# Altium integrated library TI Data Converters Analog to Digital Converter.IntLib: 2197 symbols (part 142 of 168)
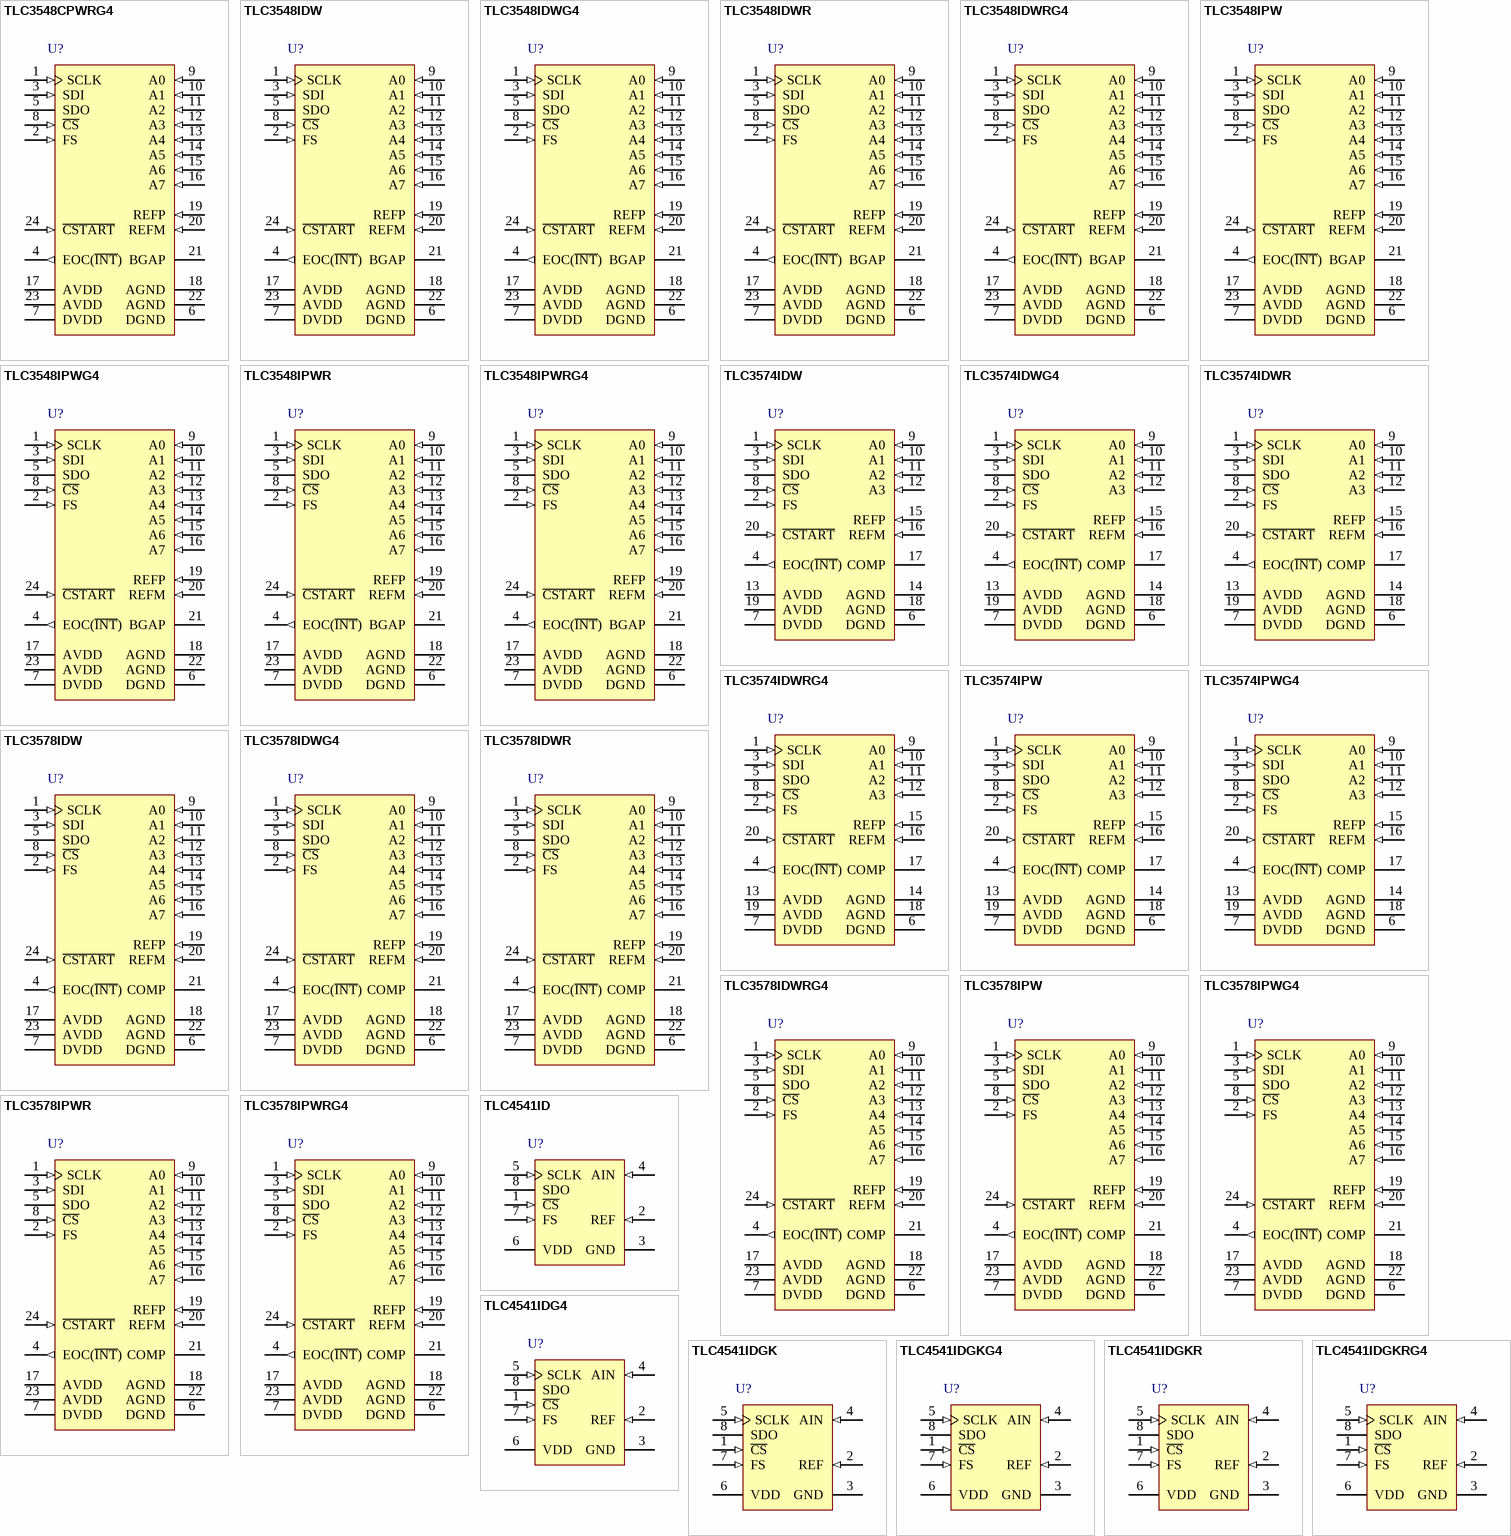
[diagram p267: symbols TLC3548CPWRG4 to TLC4541IDGKRG4]

## TLC3548IPWR
designator U?
14-Bit, 5 V, 200 kSPS, 8-Channel Unipolar ADC, -40 to 85 degC, 24-pin SOP (PW24), Green (RoHS & no Sb/Br); Manufacturer: Texas Instruments; PartNumber: TLC3548IPWR; # Input Channels: 8; Analog Voltage AV/DD(Max)(V): 5.5; Analog Voltage AV/DD(Min)(V): 4.5; Architecture: SAR; Digital Supply(Min)(V): 2.7; ENOB(Bits): 13.1; INL(Max)(+/-LSB): 1; Interface: Serial SPI; Resolution(Bits): 14; Sample Rate (max)(SPS): 200k; SFDR(dB): 97; SINAD(dB): 80.8; SNR(dB): 81; SubFamily: Precision ADC (<=10MSPS); DatasheetVersion: SLAS266C; PackageVersion: 4040064-6/G, 02/2011; PackageReference: PW24; PackageDescription: 24-Pin Plastic Small Outline, Body 7.8 x 4.4 mm, Pitch 0.65 mm; Supplier 1: Digi-Key; Supplier Part Number 1: TLC0838IDWRG4-ND; Supplier 2: Mouser; Supplier Part Number 2: 595-TLC0838IDWRG4; Digital Supply(Max)(V): 5.5; Eco-Plan: Green (RoHS & no Sb/Br); Mounting Technology: Surface Mount; Code_JEDEC: MO-153; ComponentLink1Description: Manufacturer URL; ComponentLink1URL: http://www.ti.com/; ComponentLink2Description: Datasheet; ComponentLink2URL: http://www.ti.com/general/docs/lit/getliterature.tsp?genericPartNumber=TLC3548&fileType=pdf; ComponentLink3Description: Package Specification; ComponentLink3URL: http://www.ti.com/litv/pdf/mpds363
footprint TI-PW24_N (SOP, 24-Leads, Body 7.8x4.4mm, Pitch 0.65mm, IPC Medium Density)
footprint TI-PW24_L (SOP, 24-Leads, Body 7.8x4.4mm, Pitch 0.65mm, IPC High Density)
footprint TI-PW24_M (SOP, 24-Leads, Body 7.8x4.4mm, Pitch 0.65mm, IPC Low Density)
pins: 1 SCLK (in) "Serial clock input from the host processor to clock in the input from SDI and clock out the output via SDO. It can also be used as the conversion clock source when the external conversion clock is selected (see Table 2). (See Datasheet)", 2 FS (in) "Frame sync input from DSP. The rising edge of FS indicates the start of a serial data frame being transferred (coming into or being sent out of the device). If FS is low at the falling edge of C\S\, the rising edge of FS (See Datasheet)", 3 SDI (in) "Serial data input. The first 4 MSBs, ID[15:12], are decoded as one 4-bit command. All trailing bits,except for the CONFIGURE WRITE command, are filled with zeros. The CONFIGURE WRITE command requires additional 12-bit data. (See Datasheet)", 4 EOC(~{INT}) (out) "End of conversion (EOC) or interrupt to host processor (I\N\T\) EOC: used in conversion mode 00 only. EOC goes from high to low at the end of the sampling and remains low until the conversion is complete and data is ready.(See Datasheet)", 5 SDO (hiz) "The 3-state serial output for the A/D conversion result. All data bits are shifted out through SDO.SDO is in the high-impedance state when C\S\ is high. SDO is released after a C\S\ falling edge. The output format is MSB (See Datasheet)", 6 DGND (power) "Digital ground return for the internal circuitry", 7 DVDD (power) "Digital supply voltage", 8 ~{CS} (in) "Chip select. When C\S\ is high, SDO is in high-impedance state, SDI is ignored, and SCLK is disabled to clock data but works as conversion clock source if programmed. The falling edge of C\S\ input resets the internal 4-bit (See Datasheet)", 9 A0 (in) "Analog signal inputs. Analog input signals applied to these terminals are internally multiplexed. The driving source impedance should be less than or equal to 1 kO for normal sampling. For larger source impedance, use the (See Datasheet)", 10 A1 (in) "Analog signal inputs. Analog input signals applied to these terminals are internally multiplexed. The driving source impedance should be less than or equal to 1 kO for normal sampling. For larger source impedance, use the (See Datasheet)", 11 A2 (in) "Analog signal inputs. Analog input signals applied to these terminals are internally multiplexed. The driving source impedance should be less than or equal to 1 kO for normal sampling. For larger source impedance, use the (See Datasheet)", 12 A3 (in) "Analog signal inputs. Analog input signals applied to these terminals are internally multiplexed. The driving source impedance should be less than or equal to 1 kO for normal sampling. For larger source impedance, use the (See Datasheet)", 13 A4 (in) "Analog signal inputs. Analog input signals applied to these terminals are internally multiplexed. The driving source impedance should be less than or equal to 1 kO for normal sampling. For larger source impedance, use the (See Datasheet)", 14 A5 (in) "Analog signal inputs. Analog input signals applied to these terminals are internally multiplexed. The driving source impedance should be less than or equal to 1 kO for normal sampling. For larger source impedance, use the (See Datasheet)", 15 A6 (in) "Analog signal inputs. Analog input signals applied to these terminals are internally multiplexed. The driving source impedance should be less than or equal to 1 kO for normal sampling. For larger source impedance, use the (See Datasheet)", 16 A7 (in) "Analog signal inputs. Analog input signals applied to these terminals are internally multiplexed. The driving source impedance should be less than or equal to 1 kO for normal sampling. For larger source impedance, use the (See Datasheet)", 17 AVDD (power) "Analog supply voltage", 18 AGND (power) "Analog ground return for the internal circuitry. Unless otherwise noted, all analog voltage measurements are with respect to AGND.", 19 REFP (in) "External positive reference input. When an external reference is used, the range of maximum input voltage is determined by the difference between the voltage applied to this terminal and to the REFM terminal. Always install (See Datasheet)", 20 REFM (in) "External low reference input. Connect REFM to AGND.", 21 BGAP "Internal bandgap compensation pin. Install compensation capacitors between BGAP and AGND.0.1 uF for external reference; 10 uF in parallel with 0.1 uF for internal reference.", 22 AGND (power) "Analog ground return for the internal circuitry. Unless otherwise noted, all analog voltage measurements are with respect to AGND.", 23 AVDD (power) "Analog supply voltage", 24 ~{CSTART} (in) "External sampling trigger signal, which initiates the sampling from a selected analog input channel when the device works in extended sampling mode (asynchronous sampling). A high-to-low transition starts the sampling of the (See Datasheet)"

## TLC3548IPWRG4
designator U?
14-Bit, 5 V, 200 kSPS, 8-Channel Unipolar ADC, -40 to 85 degC, 24-pin SOP (PW24), Green (RoHS & no Sb/Br); Manufacturer: Texas Instruments; PartNumber: TLC3548IPWRG4; # Input Channels: 8; Analog Voltage AV/DD(Max)(V): 5.5; Analog Voltage AV/DD(Min)(V): 4.5; Architecture: SAR; Digital Supply(Min)(V): 2.7; ENOB(Bits): 13.1; INL(Max)(+/-LSB): 1; Interface: Serial SPI; Resolution(Bits): 14; Sample Rate (max)(SPS): 200k; SFDR(dB): 97; SINAD(dB): 81; SNR(dB): 80.8; SubFamily: Precision ADC (<=10MSPS); DatasheetVersion: SLAS266C; PackageVersion: 4040064-6/G, 02/2011; PackageReference: PW24; PackageDescription: 24-Pin Plastic Small Outline, Body 7.8 x 4.4 mm, Pitch 0.65 mm; Supplier 1: Digi-Key; Supplier Part Number 1: 296-2868-5-ND; Supplier 2: Mouser; Supplier Part Number 2: 595-TLC0838IN; Digital Supply(Max)(V): 5.5; Eco-Plan: Green (RoHS & no Sb/Br); Mounting Technology: Surface Mount; Code_JEDEC: MO-153; ComponentLink1Description: Manufacturer URL; ComponentLink1URL: http://www.ti.com/; ComponentLink2Description: Datasheet; ComponentLink2URL: http://www.ti.com/general/docs/lit/getliterature.tsp?genericPartNumber=TLC3548&fileType=pdf; ComponentLink3Description: Package Specification; ComponentLink3URL: http://www.ti.com/litv/pdf/mpds363
footprint TI-PW24_N (SOP, 24-Leads, Body 7.8x4.4mm, Pitch 0.65mm, IPC Medium Density)
footprint TI-PW24_L (SOP, 24-Leads, Body 7.8x4.4mm, Pitch 0.65mm, IPC High Density)
footprint TI-PW24_M (SOP, 24-Leads, Body 7.8x4.4mm, Pitch 0.65mm, IPC Low Density)
pins: 1 SCLK (in) "Serial clock input from the host processor to clock in the input from SDI and clock out the output via SDO. It can also be used as the conversion clock source when the external conversion clock is selected (see Table 2). (See Datasheet)", 2 FS (in) "Frame sync input from DSP. The rising edge of FS indicates the start of a serial data frame being transferred (coming into or being sent out of the device). If FS is low at the falling edge of C\S\, the rising edge of FS (See Datasheet)", 3 SDI (in) "Serial data input. The first 4 MSBs, ID[15:12], are decoded as one 4-bit command. All trailing bits,except for the CONFIGURE WRITE command, are filled with zeros. The CONFIGURE WRITE command requires additional 12-bit data. (See Datasheet)", 4 EOC(~{INT}) (out) "End of conversion (EOC) or interrupt to host processor (I\N\T\) EOC: used in conversion mode 00 only. EOC goes from high to low at the end of the sampling and remains low until the conversion is complete and data is ready.(See Datasheet)", 5 SDO (hiz) "The 3-state serial output for the A/D conversion result. All data bits are shifted out through SDO.SDO is in the high-impedance state when C\S\ is high. SDO is released after a C\S\ falling edge. The output format is MSB (See Datasheet)", 6 DGND (power) "Digital ground return for the internal circuitry", 7 DVDD (power) "Digital supply voltage", 8 ~{CS} (in) "Chip select. When C\S\ is high, SDO is in high-impedance state, SDI is ignored, and SCLK is disabled to clock data but works as conversion clock source if programmed. The falling edge of C\S\ input resets the internal 4-bit (See Datasheet)", 9 A0 (in) "Analog signal inputs. Analog input signals applied to these terminals are internally multiplexed. The driving source impedance should be less than or equal to 1 kO for normal sampling. For larger source impedance, use the (See Datasheet)", 10 A1 (in) "Analog signal inputs. Analog input signals applied to these terminals are internally multiplexed. The driving source impedance should be less than or equal to 1 kO for normal sampling. For larger source impedance, use the (See Datasheet)", 11 A2 (in) "Analog signal inputs. Analog input signals applied to these terminals are internally multiplexed. The driving source impedance should be less than or equal to 1 kO for normal sampling. For larger source impedance, use the (See Datasheet)", 12 A3 (in) "Analog signal inputs. Analog input signals applied to these terminals are internally multiplexed. The driving source impedance should be less than or equal to 1 kO for normal sampling. For larger source impedance, use the (See Datasheet)", 13 A4 (in) "Analog signal inputs. Analog input signals applied to these terminals are internally multiplexed. The driving source impedance should be less than or equal to 1 kO for normal sampling. For larger source impedance, use the (See Datasheet)", 14 A5 (in) "Analog signal inputs. Analog input signals applied to these terminals are internally multiplexed. The driving source impedance should be less than or equal to 1 kO for normal sampling. For larger source impedance, use the (See Datasheet)", 15 A6 (in) "Analog signal inputs. Analog input signals applied to these terminals are internally multiplexed. The driving source impedance should be less than or equal to 1 kO for normal sampling. For larger source impedance, use the (See Datasheet)", 16 A7 (in) "Analog signal inputs. Analog input signals applied to these terminals are internally multiplexed. The driving source impedance should be less than or equal to 1 kO for normal sampling. For larger source impedance, use the (See Datasheet)", 17 AVDD (power) "Analog supply voltage", 18 AGND (power) "Analog ground return for the internal circuitry. Unless otherwise noted, all analog voltage measurements are with respect to AGND.", 19 REFP (in) "External positive reference input. When an external reference is used, the range of maximum input voltage is determined by the difference between the voltage applied to this terminal and to the REFM terminal. Always install (See Datasheet)", 20 REFM (in) "External low reference input. Connect REFM to AGND.", 21 BGAP "Internal bandgap compensation pin. Install compensation capacitors between BGAP and AGND.0.1 uF for external reference; 10 uF in parallel with 0.1 uF for internal reference.", 22 AGND (power) "Analog ground return for the internal circuitry. Unless otherwise noted, all analog voltage measurements are with respect to AGND.", 23 AVDD (power) "Analog supply voltage", 24 ~{CSTART} (in) "External sampling trigger signal, which initiates the sampling from a selected analog input channel when the device works in extended sampling mode (asynchronous sampling). A high-to-low transition starts the sampling of the (See Datasheet)"

## TLC3574IDW
designator U?
Serial Out, Low Power with Built-In Conversion Clock and 8 x FIFO, 4 Channel, -40 to 85 degC, 20-pin SOIC (DW20), Green (RoHS & no Sb/Br); Manufacturer: Texas Instruments; PartNumber: TLC3574IDW; # Input Channels: 4; Analog Voltage AV/DD(Max)(V): 5.5; Analog Voltage AV/DD(Min)(V): 4.75; Architecture: SAR; Digital Supply(Min)(V): 2.7; ENOB(Bits): 12.8; INL(Max)(+/-LSB): 1.5; Interface: Serial SPI; Resolution(Bits): 14; Sample Rate (max)(SPS): 200k; SFDR(dB): 84; SINAD(dB): 79; SNR(dB): 80; SubFamily: Precision ADC (<=10MSPS); DatasheetVersion: SLAS262C; PackageVersion: 4040000-4/G, 01/2011; PackageReference: DW20; PackageDescription: 20-Pin Plastic Small Outline, Body 12.8 x 7.5 mm, Pitch 1.27 mm; Supplier 1: Digi-Key; Supplier Part Number 1: TLC0838INE4-ND; Supplier 2: Mouser; Supplier Part Number 2: 595-TLC0838INE4; Digital Supply(Max)(V): 5.5; Eco-Plan: Green (RoHS & no Sb/Br); Mounting Technology: Surface Mount; Code_JEDEC: MO-013; ComponentLink1Description: Manufacturer URL; ComponentLink1URL: http://www.ti.com/; ComponentLink2Description: Datasheet; ComponentLink2URL: http://www.ti.com/general/docs/lit/getliterature.tsp?genericPartNumber=TLC3574&fileType=pdf; ComponentLink3Description: Package Specification; ComponentLink3URL: http://www.ti.com/lit/ml/mpds173a/mpds173a.pdf
footprint TI-DW20_N (SOIC, 20-Leads, Body 12.8x7.5mm, Pitch 1.27mm, IPC Medium Density)
footprint TI-DW20_L (SOIC, 20-Leads, Body 12.8x7.5mm, Pitch 1.27mm, IPC High Density)
footprint TI-DW20_M (SOIC, 20-Leads, Body 12.8x7.5mm, Pitch 1.27mm, IPC Low Density)
pins: 1 SCLK (in) "Serial clock input from the host processor to clock in the input from SDI and clock out the output via SDO. It can also be used as the conversion clock source when the external conversion clock is selected (see Table 2). (See Datasheet)", 2 FS (in) "Frame sync input from DSP. The rising edge of FS indicates the start of a serial data frame being transferred (coming into or being sent out of the device). If FS is low at the falling edge of C\S\, the rising edge of FS (See Datasheet)", 3 SDI (in) "Serial data input. The first 4 MSBs, ID[15:12], are decoded as one 4-bit command. All trailing bits, except for the WRITE CFR command, are filled with zeros. The WRITE CFR command requires additional 12-bit data. The MSB of (See Datasheet)", 4 EOC(~{INT}) (out) "End of conversion (EOC) or interrupt to host processor (I\N\T\) EOC: used in conversion mode 00 only. EOC goes from high to low at the end of the sampling and remains low until the conversion is complete and data is ready. (See Datasheet)", 5 SDO (hiz) "The 3-state serial output for the A/D conversion result. All data bits are shifted out through SDO. SDO is in the high-impedance state when C\S\ is high. SDO is released after a C\S\ falling edge. The output format is MSB (See Datasheet)", 6 DGND (power) "Digital ground return for the internal circuitry", 7 DVDD (power) "Digital supply voltage", 8 ~{CS} (in) "Chip select. When C\S\ is high, SDO is in high-impedance state, SDI is ignored, and SCLK is disabled to clock data, but works as conversion clock source if programmed. The falling edge of C\S\ input resets the internal 4-bit (See Datasheet)", 9 A0 (in) "Analog signal inputs. Analog input signals applied to these terminals are internally multiplexed. The driving source impedance should be less than or equal to 25 ohm for normal sampling. For larger source impedance, use the (See Datasheet)", 10 A1 (in) "Analog signal inputs. Analog input signals applied to these terminals are internally multiplexed. The driving source impedance should be less than or equal to 25 ohm for normal sampling. For larger source impedance, use the (See Datasheet)", 11 A2 (in) "Analog signal inputs. Analog input signals applied to these terminals are internally multiplexed. The driving source impedance should be less than or equal to 25 ohm for normal sampling. For larger source impedance, use the (See Datasheet)", 12 A3 (in) "Analog signal inputs. Analog input signals applied to these terminals are internally multiplexed. The driving source impedance should be less than or equal to 25 ohm for normal sampling. For larger source impedance, use the (See Datasheet)", 13 AVDD (power) "Analog supply voltage", 14 AGND (power) "Analog ground return for the internal circuitry. Unless otherwise noted, all analog voltage measurements are with respect to AGND.", 15 REFP (in) "External positive reference input. The range of maximum input voltage is determined by the difference between the voltage applied to this terminal and to the REFM terminal. Always install decoupling capacitors (10 uF in (See Datasheet)", 16 REFM (in) "External low reference input. Connect REFM to AGND.", 17 COMP "Internal compensation pin. Install compensation capacitors 0.1 uF between this pin and AGND.", 18 AGND (power) "Analog ground return for the internal circuitry. Unless otherwise noted, all analog voltage measurements are with respect to AGND.", 19 AVDD (power) "Analog supply voltage", 20 ~{CSTART} (in) "External sampling trigger signal, which initiates the sampling from a selected analog input channel when the device works in extended sampling mode (asynchronous sampling). A high-to-low transition starts the sampling of the (See Datasheet)"

## TLC3574IDWG4
designator U?
Serial Out, Low Power with Built-In Conversion Clock and 8 x FIFO, 4 Channel, -40 to 85 degC, 20-pin SOIC (DW20), Green (RoHS & no Sb/Br); Manufacturer: Texas Instruments; PartNumber: TLC3574IDWG4; # Input Channels: 4; Analog Voltage AV/DD(Max)(V): 5.5; Analog Voltage AV/DD(Min)(V): 4.75; Architecture: SAR; Digital Supply(Min)(V): 2.7; ENOB(Bits): 12.8; INL(Max)(+/-LSB): 1.5; Interface: Serial SPI; Resolution(Bits): 14; Sample Rate (max)(SPS): 200k; SFDR(dB): 84; SINAD(dB): 79; SNR(dB): 80; SubFamily: Precision ADC (<=10MSPS); DatasheetVersion: SLAS262C; PackageVersion: 4040000-4/G, 01/2011; PackageReference: DW20; PackageDescription: 20-Pin Plastic Small Outline, Body 12.8 x 7.5 mm, Pitch 1.27 mm; Supplier 1: Digi-Key; Supplier Part Number 1: 296-2869-5-ND; Supplier 2: Newark; Supplier Part Number 2: 76C6762; Supplier 3: Mouser; Supplier Part Number 3: 595-TLC0838IPW; Digital Supply(Max)(V): 5.5; Eco-Plan: Green (RoHS & no Sb/Br); Mounting Technology: Surface Mount; Code_JEDEC: MO-013; ComponentLink1Description: Manufacturer URL; ComponentLink1URL: http://www.ti.com/; ComponentLink2Description: Datasheet; ComponentLink2URL: http://www.ti.com/general/docs/lit/getliterature.tsp?genericPartNumber=TLC3574&fileType=pdf; ComponentLink3Description: Package Specification; ComponentLink3URL: http://www.ti.com/lit/ml/mpds173a/mpds173a.pdf
footprint TI-DW20_N (SOIC, 20-Leads, Body 12.8x7.5mm, Pitch 1.27mm, IPC Medium Density)
footprint TI-DW20_L (SOIC, 20-Leads, Body 12.8x7.5mm, Pitch 1.27mm, IPC High Density)
footprint TI-DW20_M (SOIC, 20-Leads, Body 12.8x7.5mm, Pitch 1.27mm, IPC Low Density)
pins: 1 SCLK (in) "Serial clock input from the host processor to clock in the input from SDI and clock out the output via SDO. It can also be used as the conversion clock source when the external conversion clock is selected (see Table 2). (See Datasheet)", 2 FS (in) "Frame sync input from DSP. The rising edge of FS indicates the start of a serial data frame being transferred (coming into or being sent out of the device). If FS is low at the falling edge of C\S\, the rising edge of FS (See Datasheet)", 3 SDI (in) "Serial data input. The first 4 MSBs, ID[15:12], are decoded as one 4-bit command. All trailing bits, except for the WRITE CFR command, are filled with zeros. The WRITE CFR command requires additional 12-bit data. The MSB of (See Datasheet)", 4 EOC(~{INT}) (out) "End of conversion (EOC) or interrupt to host processor (I\N\T\) EOC: used in conversion mode 00 only. EOC goes from high to low at the end of the sampling and remains low until the conversion is complete and data is ready. (See Datasheet)", 5 SDO (hiz) "The 3-state serial output for the A/D conversion result. All data bits are shifted out through SDO. SDO is in the high-impedance state when C\S\ is high. SDO is released after a C\S\ falling edge. The output format is MSB (See Datasheet)", 6 DGND (power) "Digital ground return for the internal circuitry", 7 DVDD (power) "Digital supply voltage", 8 ~{CS} (in) "Chip select. When C\S\ is high, SDO is in high-impedance state, SDI is ignored, and SCLK is disabled to clock data, but works as conversion clock source if programmed. The falling edge of C\S\ input resets the internal 4-bit (See Datasheet)", 9 A0 (in) "Analog signal inputs. Analog input signals applied to these terminals are internally multiplexed. The driving source impedance should be less than or equal to 25 ohm for normal sampling. For larger source impedance, use the (See Datasheet)", 10 A1 (in) "Analog signal inputs. Analog input signals applied to these terminals are internally multiplexed. The driving source impedance should be less than or equal to 25 ohm for normal sampling. For larger source impedance, use the (See Datasheet)", 11 A2 (in) "Analog signal inputs. Analog input signals applied to these terminals are internally multiplexed. The driving source impedance should be less than or equal to 25 ohm for normal sampling. For larger source impedance, use the (See Datasheet)", 12 A3 (in) "Analog signal inputs. Analog input signals applied to these terminals are internally multiplexed. The driving source impedance should be less than or equal to 25 ohm for normal sampling. For larger source impedance, use the (See Datasheet)", 13 AVDD (power) "Analog supply voltage", 14 AGND (power) "Analog ground return for the internal circuitry. Unless otherwise noted, all analog voltage measurements are with respect to AGND.", 15 REFP (in) "External positive reference input. The range of maximum input voltage is determined by the difference between the voltage applied to this terminal and to the REFM terminal. Always install decoupling capacitors (10 uF in (See Datasheet)", 16 REFM (in) "External low reference input. Connect REFM to AGND.", 17 COMP "Internal compensation pin. Install compensation capacitors 0.1 uF between this pin and AGND.", 18 AGND (power) "Analog ground return for the internal circuitry. Unless otherwise noted, all analog voltage measurements are with respect to AGND.", 19 AVDD (power) "Analog supply voltage", 20 ~{CSTART} (in) "External sampling trigger signal, which initiates the sampling from a selected analog input channel when the device works in extended sampling mode (asynchronous sampling). A high-to-low transition starts the sampling of the (See Datasheet)"

## TLC3574IDWR
designator U?
Serial Out, Low Power with Built-In Conversion Clock and 8 x FIFO, 4 Channel, -40 to 85 degC, 20-pin SOIC (DW20), Green (RoHS & no Sb/Br); Manufacturer: Texas Instruments; PartNumber: TLC3574IDWR; # Input Channels: 4; Analog Voltage AV/DD(Max)(V): 5.5; Analog Voltage AV/DD(Min)(V): 4.75; Architecture: SAR; Digital Supply(Min)(V): 2.7; ENOB(Bits): 12.8; INL(Max)(+/-LSB): 1.5; Interface: Serial SPI; Resolution(Bits): 14; Sample Rate (max)(SPS): 200k; SFDR(dB): 84; SINAD(dB): 79; SNR(dB): 80; SubFamily: Precision ADC (<=10MSPS); DatasheetVersion: SLAS262C; PackageVersion: 4040000-4/G, 01/2011; PackageReference: DW20; PackageDescription: 20-Pin Plastic Small Outline, Body 12.8 x 7.5 mm, Pitch 1.27 mm; Supplier 1: Digi-Key; Supplier Part Number 1: TLC0838IPWG4-ND; Supplier 2: Mouser; Supplier Part Number 2: 595-TLC0838IPWG4; Digital Supply(Max)(V): 5.5; Eco-Plan: Green (RoHS & no Sb/Br); Mounting Technology: Surface Mount; Code_JEDEC: MO-013; ComponentLink1Description: Manufacturer URL; ComponentLink1URL: http://www.ti.com/; ComponentLink2Description: Datasheet; ComponentLink2URL: http://www.ti.com/general/docs/lit/getliterature.tsp?genericPartNumber=TLC3574&fileType=pdf; ComponentLink3Description: Package Specification; ComponentLink3URL: http://www.ti.com/lit/ml/mpds173a/mpds173a.pdf
footprint TI-DW20_N (SOIC, 20-Leads, Body 12.8x7.5mm, Pitch 1.27mm, IPC Medium Density)
footprint TI-DW20_L (SOIC, 20-Leads, Body 12.8x7.5mm, Pitch 1.27mm, IPC High Density)
footprint TI-DW20_M (SOIC, 20-Leads, Body 12.8x7.5mm, Pitch 1.27mm, IPC Low Density)
pins: 1 SCLK (in) "Serial clock input from the host processor to clock in the input from SDI and clock out the output via SDO. It can also be used as the conversion clock source when the external conversion clock is selected (see Table 2). (See Datasheet)", 2 FS (in) "Frame sync input from DSP. The rising edge of FS indicates the start of a serial data frame being transferred (coming into or being sent out of the device). If FS is low at the falling edge of C\S\, the rising edge of FS (See Datasheet)", 3 SDI (in) "Serial data input. The first 4 MSBs, ID[15:12], are decoded as one 4-bit command. All trailing bits, except for the WRITE CFR command, are filled with zeros. The WRITE CFR command requires additional 12-bit data. The MSB of (See Datasheet)", 4 EOC(~{INT}) (out) "End of conversion (EOC) or interrupt to host processor (I\N\T\) EOC: used in conversion mode 00 only. EOC goes from high to low at the end of the sampling and remains low until the conversion is complete and data is ready. (See Datasheet)", 5 SDO (hiz) "The 3-state serial output for the A/D conversion result. All data bits are shifted out through SDO. SDO is in the high-impedance state when C\S\ is high. SDO is released after a C\S\ falling edge. The output format is MSB (See Datasheet)", 6 DGND (power) "Digital ground return for the internal circuitry", 7 DVDD (power) "Digital supply voltage", 8 ~{CS} (in) "Chip select. When C\S\ is high, SDO is in high-impedance state, SDI is ignored, and SCLK is disabled to clock data, but works as conversion clock source if programmed. The falling edge of C\S\ input resets the internal 4-bit (See Datasheet)", 9 A0 (in) "Analog signal inputs. Analog input signals applied to these terminals are internally multiplexed. The driving source impedance should be less than or equal to 25 ohm for normal sampling. For larger source impedance, use the (See Datasheet)", 10 A1 (in) "Analog signal inputs. Analog input signals applied to these terminals are internally multiplexed. The driving source impedance should be less than or equal to 25 ohm for normal sampling. For larger source impedance, use the (See Datasheet)", 11 A2 (in) "Analog signal inputs. Analog input signals applied to these terminals are internally multiplexed. The driving source impedance should be less than or equal to 25 ohm for normal sampling. For larger source impedance, use the (See Datasheet)", 12 A3 (in) "Analog signal inputs. Analog input signals applied to these terminals are internally multiplexed. The driving source impedance should be less than or equal to 25 ohm for normal sampling. For larger source impedance, use the (See Datasheet)", 13 AVDD (power) "Analog supply voltage", 14 AGND (power) "Analog ground return for the internal circuitry. Unless otherwise noted, all analog voltage measurements are with respect to AGND.", 15 REFP (in) "External positive reference input. The range of maximum input voltage is determined by the difference between the voltage applied to this terminal and to the REFM terminal. Always install decoupling capacitors (10 uF in (See Datasheet)", 16 REFM (in) "External low reference input. Connect REFM to AGND.", 17 COMP "Internal compensation pin. Install compensation capacitors 0.1 uF between this pin and AGND.", 18 AGND (power) "Analog ground return for the internal circuitry. Unless otherwise noted, all analog voltage measurements are with respect to AGND.", 19 AVDD (power) "Analog supply voltage", 20 ~{CSTART} (in) "External sampling trigger signal, which initiates the sampling from a selected analog input channel when the device works in extended sampling mode (asynchronous sampling). A high-to-low transition starts the sampling of the (See Datasheet)"

## TLC3574IDWRG4
designator U?
Serial Out, Low Power with Built-In Conversion Clock and 8 x FIFO, 4 Channel, -40 to 85 degC, 20-pin SOIC (DW20), Green (RoHS & no Sb/Br); Manufacturer: Texas Instruments; PartNumber: TLC3574IDWRG4; # Input Channels: 4; Analog Voltage AV/DD(Max)(V): 5.5; Analog Voltage AV/DD(Min)(V): 4.75; Architecture: SAR; Digital Supply(Min)(V): 2.7; ENOB(Bits): 12.8; INL(Max)(+/-LSB): 1.5; Interface: Serial SPI; Resolution(Bits): 14; Sample Rate (max)(SPS): 200k; SFDR(dB): 84; SINAD(dB): 79; SNR(dB): 80; SubFamily: Precision ADC (<=10MSPS); DatasheetVersion: SLAS262C; PackageVersion: 4040000-4/G, 01/2011; PackageReference: DW20; PackageDescription: 20-Pin Plastic Small Outline, Body 12.8 x 7.5 mm, Pitch 1.27 mm; Supplier 1: Digi-Key; Supplier Part Number 1: TLC0838IPWR-ND; Supplier 2: Mouser; Supplier Part Number 2: 595-TLC0838IPWR; Digital Supply(Max)(V): 5.5; Eco-Plan: Green (RoHS & no Sb/Br); Mounting Technology: Surface Mount; Code_JEDEC: MO-013; ComponentLink1Description: Manufacturer URL; ComponentLink1URL: http://www.ti.com/; ComponentLink2Description: Datasheet; ComponentLink2URL: http://www.ti.com/general/docs/lit/getliterature.tsp?genericPartNumber=TLC3574&fileType=pdf; ComponentLink3Description: Package Specification; ComponentLink3URL: http://www.ti.com/lit/ml/mpds173a/mpds173a.pdf
footprint TI-DW20_N (SOIC, 20-Leads, Body 12.8x7.5mm, Pitch 1.27mm, IPC Medium Density)
footprint TI-DW20_L (SOIC, 20-Leads, Body 12.8x7.5mm, Pitch 1.27mm, IPC High Density)
footprint TI-DW20_M (SOIC, 20-Leads, Body 12.8x7.5mm, Pitch 1.27mm, IPC Low Density)
pins: 1 SCLK (in) "Serial clock input from the host processor to clock in the input from SDI and clock out the output via SDO. It can also be used as the conversion clock source when the external conversion clock is selected (see Table 2). (See Datasheet)", 2 FS (in) "Frame sync input from DSP. The rising edge of FS indicates the start of a serial data frame being transferred (coming into or being sent out of the device). If FS is low at the falling edge of C\S\, the rising edge of FS (See Datasheet)", 3 SDI (in) "Serial data input. The first 4 MSBs, ID[15:12], are decoded as one 4-bit command. All trailing bits, except for the WRITE CFR command, are filled with zeros. The WRITE CFR command requires additional 12-bit data. The MSB of (See Datasheet)", 4 EOC(~{INT}) (out) "End of conversion (EOC) or interrupt to host processor (I\N\T\) EOC: used in conversion mode 00 only. EOC goes from high to low at the end of the sampling and remains low until the conversion is complete and data is ready. (See Datasheet)", 5 SDO (hiz) "The 3-state serial output for the A/D conversion result. All data bits are shifted out through SDO. SDO is in the high-impedance state when C\S\ is high. SDO is released after a C\S\ falling edge. The output format is MSB (See Datasheet)", 6 DGND (power) "Digital ground return for the internal circuitry", 7 DVDD (power) "Digital supply voltage", 8 ~{CS} (in) "Chip select. When C\S\ is high, SDO is in high-impedance state, SDI is ignored, and SCLK is disabled to clock data, but works as conversion clock source if programmed. The falling edge of C\S\ input resets the internal 4-bit (See Datasheet)", 9 A0 (in) "Analog signal inputs. Analog input signals applied to these terminals are internally multiplexed. The driving source impedance should be less than or equal to 25 ohm for normal sampling. For larger source impedance, use the (See Datasheet)", 10 A1 (in) "Analog signal inputs. Analog input signals applied to these terminals are internally multiplexed. The driving source impedance should be less than or equal to 25 ohm for normal sampling. For larger source impedance, use the (See Datasheet)", 11 A2 (in) "Analog signal inputs. Analog input signals applied to these terminals are internally multiplexed. The driving source impedance should be less than or equal to 25 ohm for normal sampling. For larger source impedance, use the (See Datasheet)", 12 A3 (in) "Analog signal inputs. Analog input signals applied to these terminals are internally multiplexed. The driving source impedance should be less than or equal to 25 ohm for normal sampling. For larger source impedance, use the (See Datasheet)", 13 AVDD (power) "Analog supply voltage", 14 AGND (power) "Analog ground return for the internal circuitry. Unless otherwise noted, all analog voltage measurements are with respect to AGND.", 15 REFP (in) "External positive reference input. The range of maximum input voltage is determined by the difference between the voltage applied to this terminal and to the REFM terminal. Always install decoupling capacitors (10 uF in (See Datasheet)", 16 REFM (in) "External low reference input. Connect REFM to AGND.", 17 COMP "Internal compensation pin. Install compensation capacitors 0.1 uF between this pin and AGND.", 18 AGND (power) "Analog ground return for the internal circuitry. Unless otherwise noted, all analog voltage measurements are with respect to AGND.", 19 AVDD (power) "Analog supply voltage", 20 ~{CSTART} (in) "External sampling trigger signal, which initiates the sampling from a selected analog input channel when the device works in extended sampling mode (asynchronous sampling). A high-to-low transition starts the sampling of the (See Datasheet)"

## TLC3574IPW
designator U?
Serial Out, Low Power with Built-In Conversion Clock and 8 x FIFO, 4 Channel, -40 to 85 degC, 20-pin SOP (PW20), Green (RoHS & no Sb/Br); Manufacturer: Texas Instruments; PartNumber: TLC3574IPW; # Input Channels: 4; Analog Voltage AV/DD(Max)(V): 5.5; Analog Voltage AV/DD(Min)(V): 4.75; Architecture: SAR; Digital Supply(Min)(V): 2.7; ENOB(Bits): 12.8; INL(Max)(+/-LSB): 1.5; Interface: Serial SPI; Resolution(Bits): 14; Sample Rate (max)(SPS): 200k; SFDR(dB): 84; SINAD(dB): 79; SNR(dB): 80; SubFamily: Precision ADC (<=10MSPS); DatasheetVersion: SLAS262C; PackageVersion: 4040064-5/G, 02/2011; PackageReference: PW20; PackageDescription: 20-Pin Plastic Small Outline, Body 6.5 x 4.4 mm, Pitch 0.65 mm; Supplier 1: Digi-Key; Supplier Part Number 1: TLC0838IPWRG4-ND; Supplier 2: Mouser; Supplier Part Number 2: 595-TLC0838IPWRG4; Digital Supply(Max)(V): 5.5; Eco-Plan: Green (RoHS & no Sb/Br); Mounting Technology: Surface Mount; Code_JEDEC: MO-153; ComponentLink1Description: Manufacturer URL; ComponentLink1URL: http://www.ti.com/; ComponentLink2Description: Datasheet; ComponentLink2URL: http://www.ti.com/general/docs/lit/getliterature.tsp?genericPartNumber=TLC3574&fileType=pdf; ComponentLink3Description: Package Specification; ComponentLink3URL: http://www.ti.com.cn/cn/lit/ml/mpds362/mpds362.pdf
footprint TI-PW20_N (SOP, 20-Leads, Body 6.5x4.4mm, Pitch 0.65mm, IPC Medium Density)
footprint TI-PW20_L (SOP, 20-Leads, Body 6.5x4.4mm, Pitch 0.65mm, IPC High Density)
footprint TI-PW20_M (SOP, 20-Leads, Body 6.5x4.4mm, Pitch 0.65mm, IPC Low Density)
pins: 1 SCLK (in) "Serial clock input from the host processor to clock in the input from SDI and clock out the output via SDO. It can also be used as the conversion clock source when the external conversion clock is selected (see Table 2). (See Datasheet)", 2 FS (in) "Frame sync input from DSP. The rising edge of FS indicates the start of a serial data frame being transferred (coming into or being sent out of the device). If FS is low at the falling edge of C\S\, the rising edge of FS (See Datasheet)", 3 SDI (in) "Serial data input. The first 4 MSBs, ID[15:12], are decoded as one 4-bit command. All trailing bits, except for the WRITE CFR command, are filled with zeros. The WRITE CFR command requires additional 12-bit data. The MSB of (See Datasheet)", 4 EOC(~{INT}) (out) "End of conversion (EOC) or interrupt to host processor (I\N\T\) EOC: used in conversion mode 00 only. EOC goes from high to low at the end of the sampling and remains low until the conversion is complete and data is ready. (See Datasheet)", 5 SDO (hiz) "The 3-state serial output for the A/D conversion result. All data bits are shifted out through SDO. SDO is in the high-impedance state when C\S\ is high. SDO is released after a C\S\ falling edge. The output format is MSB (See Datasheet)", 6 DGND (power) "Digital ground return for the internal circuitry", 7 DVDD (power) "Digital supply voltage", 8 ~{CS} (in) "Chip select. When C\S\ is high, SDO is in high-impedance state, SDI is ignored, and SCLK is disabled to clock data, but works as conversion clock source if programmed. The falling edge of C\S\ input resets the internal 4-bit (See Datasheet)", 9 A0 (in) "Analog signal inputs. Analog input signals applied to these terminals are internally multiplexed. The driving source impedance should be less than or equal to 25 ohm for normal sampling. For larger source impedance, use the (See Datasheet)", 10 A1 (in) "Analog signal inputs. Analog input signals applied to these terminals are internally multiplexed. The driving source impedance should be less than or equal to 25 ohm for normal sampling. For larger source impedance, use the (See Datasheet)", 11 A2 (in) "Analog signal inputs. Analog input signals applied to these terminals are internally multiplexed. The driving source impedance should be less than or equal to 25 ohm for normal sampling. For larger source impedance, use the (See Datasheet)", 12 A3 (in) "Analog signal inputs. Analog input signals applied to these terminals are internally multiplexed. The driving source impedance should be less than or equal to 25 ohm for normal sampling. For larger source impedance, use the (See Datasheet)", 13 AVDD (power) "Analog supply voltage", 14 AGND (power) "Analog ground return for the internal circuitry. Unless otherwise noted, all analog voltage measurements are with respect to AGND.", 15 REFP (in) "External positive reference input. The range of maximum input voltage is determined by the difference between the voltage applied to this terminal and to the REFM terminal. Always install decoupling capacitors (10 uF in (See Datasheet)", 16 REFM (in) "External low reference input. Connect REFM to AGND.", 17 COMP "Internal compensation pin. Install compensation capacitors 0.1 uF between this pin and AGND.", 18 AGND (power) "Analog ground return for the internal circuitry. Unless otherwise noted, all analog voltage measurements are with respect to AGND.", 19 AVDD (power) "Analog supply voltage", 20 ~{CSTART} (in) "External sampling trigger signal, which initiates the sampling from a selected analog input channel when the device works in extended sampling mode (asynchronous sampling). A high-to-low transition starts the sampling of the (See Datasheet)"

## TLC3574IPWG4
designator U?
Serial Out, Low Power with Built-In Conversion Clock and 8 x FIFO, 4 Channel, -40 to 85 degC, 20-pin SOP (PW20), Green (RoHS & no Sb/Br); Manufacturer: Texas Instruments; PartNumber: TLC3574IPWG4; # Input Channels: 4; Analog Voltage AV/DD(Max)(V): 5.5; Analog Voltage AV/DD(Min)(V): 4.75; Architecture: SAR; Digital Supply(Min)(V): 2.7; ENOB(Bits): 12.8; INL(Max)(+/-LSB): 1.5; Interface: Serial SPI; Resolution(Bits): 14; Sample Rate (max)(SPS): 200k; SFDR(dB): 84; SINAD(dB): 79; SNR(dB): 80; SubFamily: Precision ADC (<=10MSPS); DatasheetVersion: SLAS262C; PackageVersion: 4040064-5/G, 02/2011; PackageReference: PW20; PackageDescription: 20-Pin Plastic Small Outline, Body 6.5 x 4.4 mm, Pitch 0.65 mm; Supplier 1: Digi-Key; Supplier Part Number 1: 296-2861-5-ND; Supplier 2: Farnell; Supplier Part Number 2: 1459325; Supplier 3: Newark; Supplier Part Number 3: 91F2168; Supplier 4: Mouser; Supplier Part Number 4: 595-TLC0834CD; Digital Supply(Max)(V): 5.5; Eco-Plan: Green (RoHS & no Sb/Br); Mounting Technology: Surface Mount; Code_JEDEC: MO-153; ComponentLink1Description: Manufacturer URL; ComponentLink1URL: http://www.ti.com/; ComponentLink2Description: Datasheet; ComponentLink2URL: http://www.ti.com/general/docs/lit/getliterature.tsp?genericPartNumber=TLC3574&fileType=pdf; ComponentLink3Description: Package Specification; ComponentLink3URL: http://www.ti.com.cn/cn/lit/ml/mpds362/mpds362.pdf
footprint TI-PW20_N (SOP, 20-Leads, Body 6.5x4.4mm, Pitch 0.65mm, IPC Medium Density)
footprint TI-PW20_L (SOP, 20-Leads, Body 6.5x4.4mm, Pitch 0.65mm, IPC High Density)
footprint TI-PW20_M (SOP, 20-Leads, Body 6.5x4.4mm, Pitch 0.65mm, IPC Low Density)
pins: 1 SCLK (in) "Serial clock input from the host processor to clock in the input from SDI and clock out the output via SDO. It can also be used as the conversion clock source when the external conversion clock is selected (see Table 2). (See Datasheet)", 2 FS (in) "Frame sync input from DSP. The rising edge of FS indicates the start of a serial data frame being transferred (coming into or being sent out of the device). If FS is low at the falling edge of C\S\, the rising edge of FS (See Datasheet)", 3 SDI (in) "Serial data input. The first 4 MSBs, ID[15:12], are decoded as one 4-bit command. All trailing bits, except for the WRITE CFR command, are filled with zeros. The WRITE CFR command requires additional 12-bit data. The MSB of (See Datasheet)", 4 EOC(~{INT}) (out) "End of conversion (EOC) or interrupt to host processor (I\N\T\) EOC: used in conversion mode 00 only. EOC goes from high to low at the end of the sampling and remains low until the conversion is complete and data is ready. (See Datasheet)", 5 SDO (hiz) "The 3-state serial output for the A/D conversion result. All data bits are shifted out through SDO. SDO is in the high-impedance state when C\S\ is high. SDO is released after a C\S\ falling edge. The output format is MSB (See Datasheet)", 6 DGND (power) "Digital ground return for the internal circuitry", 7 DVDD (power) "Digital supply voltage", 8 ~{CS} (in) "Chip select. When C\S\ is high, SDO is in high-impedance state, SDI is ignored, and SCLK is disabled to clock data, but works as conversion clock source if programmed. The falling edge of C\S\ input resets the internal 4-bit (See Datasheet)", 9 A0 (in) "Analog signal inputs. Analog input signals applied to these terminals are internally multiplexed. The driving source impedance should be less than or equal to 25 ohm for normal sampling. For larger source impedance, use the (See Datasheet)", 10 A1 (in) "Analog signal inputs. Analog input signals applied to these terminals are internally multiplexed. The driving source impedance should be less than or equal to 25 ohm for normal sampling. For larger source impedance, use the (See Datasheet)", 11 A2 (in) "Analog signal inputs. Analog input signals applied to these terminals are internally multiplexed. The driving source impedance should be less than or equal to 25 ohm for normal sampling. For larger source impedance, use the (See Datasheet)", 12 A3 (in) "Analog signal inputs. Analog input signals applied to these terminals are internally multiplexed. The driving source impedance should be less than or equal to 25 ohm for normal sampling. For larger source impedance, use the (See Datasheet)", 13 AVDD (power) "Analog supply voltage", 14 AGND (power) "Analog ground return for the internal circuitry. Unless otherwise noted, all analog voltage measurements are with respect to AGND.", 15 REFP (in) "External positive reference input. The range of maximum input voltage is determined by the difference between the voltage applied to this terminal and to the REFM terminal. Always install decoupling capacitors (10 uF in (See Datasheet)", 16 REFM (in) "External low reference input. Connect REFM to AGND.", 17 COMP "Internal compensation pin. Install compensation capacitors 0.1 uF between this pin and AGND.", 18 AGND (power) "Analog ground return for the internal circuitry. Unless otherwise noted, all analog voltage measurements are with respect to AGND.", 19 AVDD (power) "Analog supply voltage", 20 ~{CSTART} (in) "External sampling trigger signal, which initiates the sampling from a selected analog input channel when the device works in extended sampling mode (asynchronous sampling). A high-to-low transition starts the sampling of the (See Datasheet)"